# EAGLE library part 16F883 (library mylib)
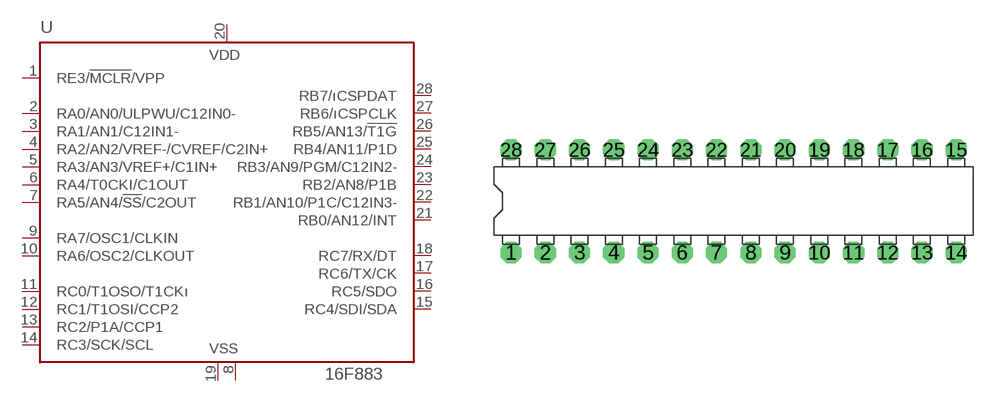
[diagram p0: symbol with the pads of MYIC-28N; footprint MYIC-28N]

Designator prefix -

## 16F883  [MYIC-28N]
1  RE3/!MCLR!/VPP  in
2  RA0/AN0/ULPWU/C12IN0-
3  RA1/AN1/C12IN1-
4  RA2/AN2/VREF-/CVREF/C2IN+
5  RA3/AN3/VREF+/C1IN+
6  RA4/T0CKI/C1OUT
7  RA5/AN4/!SS!/C2OUT
8  VSS  pwr
9  RA7/OSC1/CLKIN
10  RA6/OSC2/CLKOUT
11  RC0/T1OSO/T1CKı
12  RC1/T1OSI/CCP2
13  RC2/P1A/CCP1
14  RC3/SCK/SCL
15  RC4/SDI/SDA
16  RC5/SDO
17  RC6/TX/CK
18  RC7/RX/DT
19  VSS  pwr
20  VDD  pwr
21  RB0/AN12/INT
22  RB1/AN10/P1C/C12IN3-
23  RB2/AN8/P1B
24  RB3/AN9/PGM/C12IN2-
25  RB4/AN11/P1D
26  RB5/AN13/!T1G
27  RB6/ıCSPCLK
28  RB7/ıCSPDAT

## Footprint MYIC-28N (pad centres in mm)
drill 1.016 pad 1.575 octagon: 1 -16.51,-3.81; 2 -13.97,-3.81; 3 -11.43,-3.81; 4 -8.89,-3.81; 5 -6.35,-3.81; 6 -3.81,-3.81; 7 -1.27,-3.81; 8 1.27,-3.81; 9 3.81,-3.81; 10 6.35,-3.81; 11 8.89,-3.81; 12 11.43,-3.81; 13 13.97,-3.81; 14 16.51,-3.81; 15 16.51,3.81; 16 13.97,3.81; 17 11.43,3.81; 18 8.89,3.81; 19 6.35,3.81; 20 3.81,3.81; 21 1.27,3.81; 22 -1.27,3.81; 23 -3.81,3.81; 24 -6.35,3.81; 25 -8.89,3.81; 26 -11.43,3.81; 27 -13.97,3.81; 28 -16.51,3.81